# Altium schematic symbol library Badge_V2.SchLib: 13 symbols
Pins are listed as number, name and electrical type; pins without a type are passive.

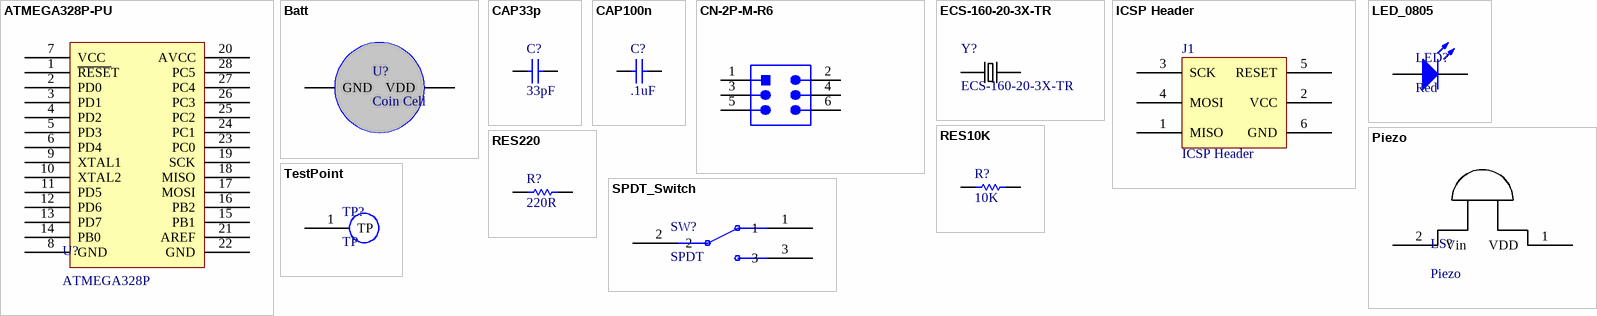
[diagram p0: symbols ATMEGA328P-PU to TestPoint]

## ATMEGA328P-PU
designator U?, comment ATMEGA328P
AVR AVR® ATmega Microcontroller IC 8-Bit 20MHz 32KB (16K x 16) FLASH 28-PDIP; Manufacturer: Microchip Technology; MPN: ATMEGA328P-PU; Value: ATMEGA328P
footprint 1-2199298-9 (CONN IC DIP SOCKET 28POS TIN)
pins: 1 ~{RESE}T, 2 PD0, 3 PD1, 4 PD2, 5 PD3, 6 PD4, 7 VCC, 8 GND, 9 XTAL1, 10 XTAL2, 11 PD5, 12 PD6, 13 PD7, 14 PB0, 15 PB1, 16 PB2, 17 MOSI, 18 MISO, 19 SCK, 20 AVCC, 21 AREF, 22 GND, 23 PC0, 24 PC1, 25 PC2, 26 PC3, 27 PC4, 28 PC5

## Batt
designator U?, comment Coin Cell
Battery Retainer Coin, 20.0mm 1 Cell SMD (SMT) Tab; MPN: 3034TR; Manufacturer: Keystone Electronics; Value: Coin Cell
footprint Batt (Coin Cell)
pins: GND, VDD

## CAP33p
designator C?, comment 33pF
capacitor; Manufacturer: Yageo; MPN: CC0805JRNPO9BN330; Value: 33pF
footprint CAPC0805(2012)145_L (Chip Capacitor, Body 2.0x1.2mm, Height 1.45mm, IPC High Density)
pins: 1, 2
1 alternate drawing of the same symbol

## CAP100n
designator C?, comment .1uF
capacitor; Manufacturer: Yageo; MPN: CC0805ZRY5V9BB104; Value: .1uF
footprint CAPC0805(2012)145_L (Chip Capacitor, Body 2.0x1.2mm, Height 1.45mm, IPC High Density)
pins: 1, 2
1 alternate drawing of the same symbol

## CN-2P-M-R6
designator P?
footprint HRWN-M20-9980346_V (THD, 6-Leads, Body 7.62x5.08mm, Pitch 2.54mm)
pins: 1, 2, 3, 4, 5, 6

## ECS-160-20-3X-TR
designator Y?
16MHz Â±30ppm Crystal 20pF 50 Ohms HC-49/US; MF: ECS Inc.; Package: HC49/US ECS International; Digi-Key_Part_Number: XC1776CT-ND; MP: ECS-160-20-3X-TR; Digi-Key_Purchase_URL: https://www.digikey.com/product-detail/en/ecs-inc/ECS-160-20-3X-TR/XC1776CT-ND/2676640?utm_source=snapeda&utm_medium=aggregator&utm_campaign=symbol; SnapEDA_Link: https://www.snapeda.com/parts/ECS-160-20-3X-TR/ECS%20Inc./view-part/561589/?ref=snap; Value: *
footprint XTAL_ECS-160-20-3X-TR
pins: 1, 2

## ICSP Header
designator J1
2x3 MM header
footprint programmer header
pins: 1 MISO, 2 VCC "3V", 3 SCK, 4 MOSI, 5 RESET, 6 GND

## LED_0805
designator LED?, comment Red
Red 625nm LED Indication - Discrete 2V 0805 (2012 Metric); MPN: 150080RS75000; Manufacturer: Würth Elektronik; Value: Red
footprint LED_0805 (Chip LED, 2-Leads, Body 2.0x1.3mm, IPC Medium Density)
pins: 1 K, 2 A

## Piezo
designator LS?
AUDIO PIEZO TRANSDUCER 30V TH; MPN: PS1240P02BT; Manufacturer: TDK Corporation; Value: Piezo
footprint Piezo
pins: 1 VDD, 2 Vin

## RES10K
designator R?, comment 10K
resistor; Manufacturer: Yageo; MPN: RC0603JR-0710KL; Value: 10K
footprint RESC0805(2012)_M (Chip Resistor, Body 2.0x1.3mm, IPC Low Density)
pins: 1, 2
1 alternate drawing of the same symbol

## RES220
designator R?, comment 220R
resistor; Manufacturer: Yageo; MPN: RC0805JR-071KL; Value: 220R
footprint RESC0805(2012)_M (Chip Resistor, Body 2.0x1.3mm, IPC Low Density)
pins: 1, 2
1 alternate drawing of the same symbol

## SPDT_Switch
designator SW?, comment SPDT
Slide Switch SPDT Through Hole; MPN: EG1218; Manufacturer: E-Switch; Value: SPDT
footprint EG1218_EG1218
pins: 1, 2, 3

## TestPoint
designator TP?, comment TP
Test Point; Value: TP; MPN: N/A; Manufacturer: N/A
footprint TP (3mm SM Test Point)
pins: 1 TP